# Altium schematic symbol library DIODE ZENER 2.8V 500mW.Schlib: 1 symbol
Pins are listed as number, name and electrical type; pins without a type are passive.

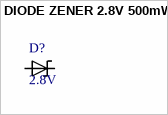
[diagram p0: symbol DIODE ZENER 2.8V 500mW]

## DIODE ZENER 2.8V 500mW
designator D?, comment 2.8V
Zener Diode 2.8V 500mW ±5% Surface Mount SOD-123
pins: A, C